# EAGLE library part TMP75BID (library circuit_tree)
IC
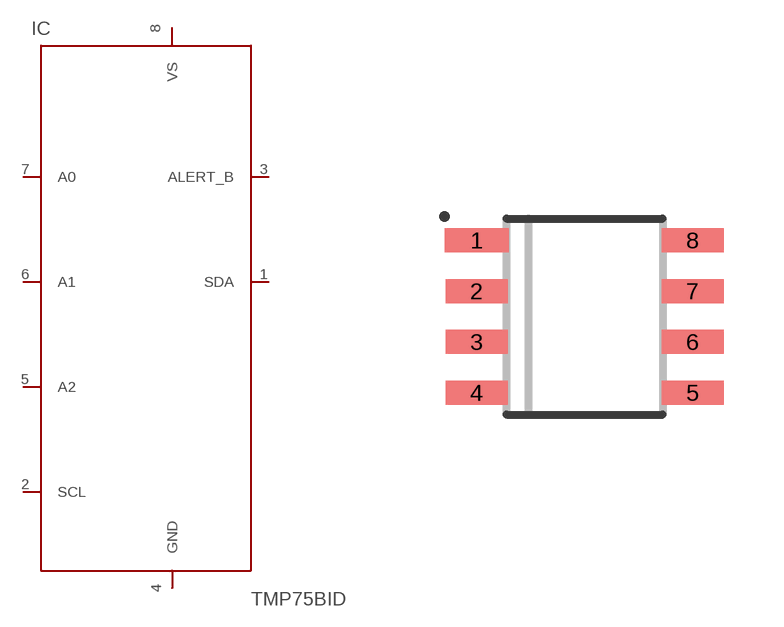
[diagram p7: symbol with the pads of SOIC-8; footprint SOIC-8]

Designator prefix IC

## TMP75BID  [SOIC-8]
1  SDA  pas
2  SCL  pas
3  ALERT_B  pas
4  GND  pas
5  A2  pas
6  A1  pas
7  A0  pas
8  VS  pas

## Footprint SOIC-8 (pad centres in mm)
smd 1.6 x 0.6: 1 -2.7,1.905
smd 1.55 x 0.6: 2 -2.7,0.635; 3 -2.7,-0.635; 4 -2.7,-1.905; 5 2.7,-1.905; 6 2.7,-0.635; 7 2.7,0.635; 8 2.7,1.905